# Altium footprint library PcbLib.PcbLib: 8 footprints
Each footprint in its own frame and in the unit in brackets; x right, y up, seen from the top. Pads: shape width x height; smd on the part's side, far side on the other; paste and mask are expansions set on the pad; w line width, h text height; cw(c..) or ccw(c..) is an arc to the next point about the centre after c.
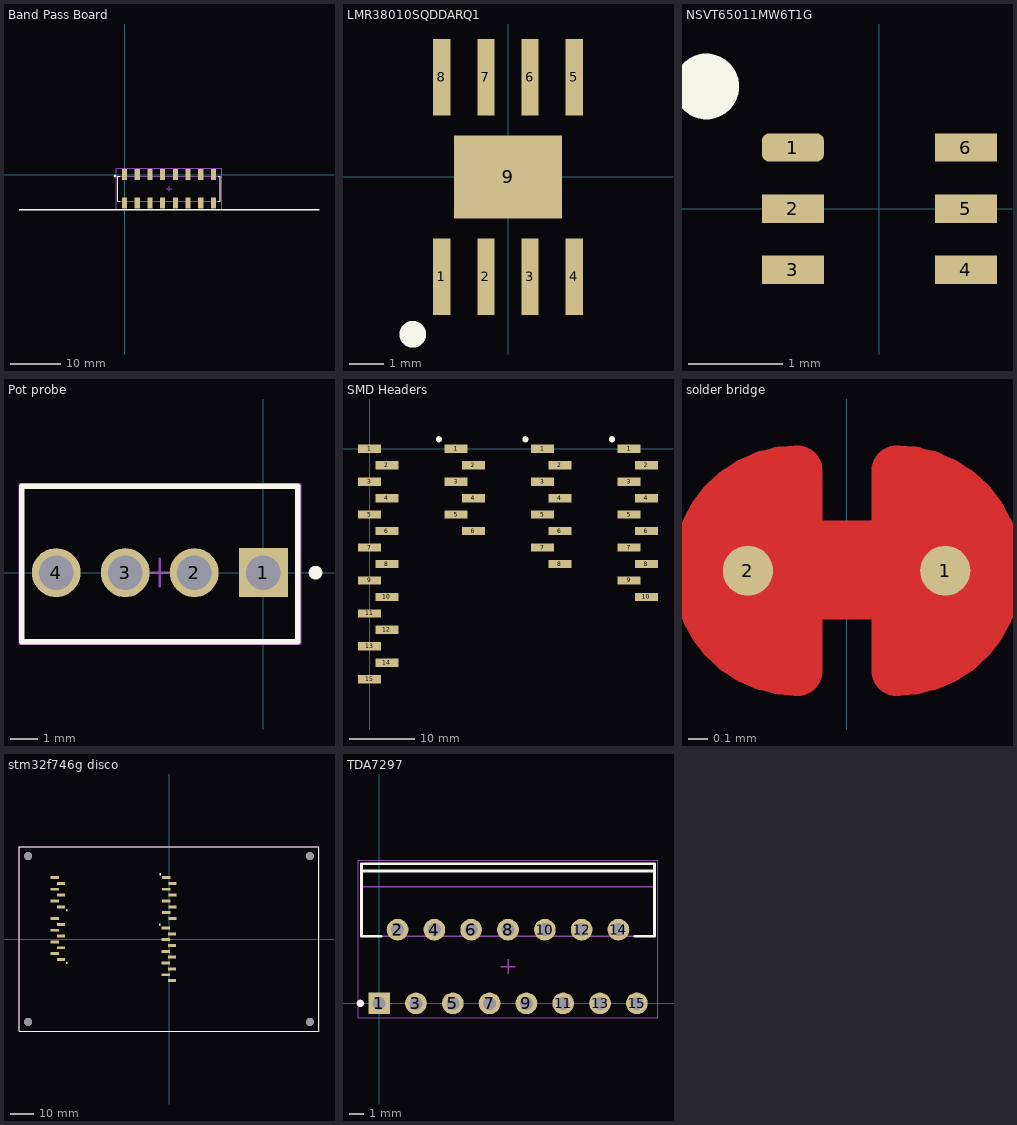
[diagram p0: the footprints below, top view; thin cyan lines are the x and y axes]

## Band Pass Board [mm]
pads (16):
  rect 1.02x2.22 smd: 1(0,0) 2(0,-5.65) 3(2.54,0) 4(2.54,-5.65) 5(5.08,0) 6(5.08,-5.65) 7(7.62,0) 8(7.62,-5.65) 9(10.16,0) 10(10.16,-5.65) 11(12.7,0) 12(12.7,-5.65) 13(15.24,0) 14(15.24,-5.65) 15(17.78,0) 16(17.78,-5.65)
Top Overlay:
  circle w0.25: c-1.905,-0.285 r0.125
  lines w0.2: -0.91,-5.365 -1.395,-5.365 -1.395,-0.285 -0.91,-0.285 ; 18.69,-5.365 19.175,-5.365 19.175,-0.285 18.69,-0.285
  lines w0.25: -21.082,-6.985 38.862,-6.985
Mechanical 13:
  lines w0.1: -1.395,-5.365 -1.395,-0.285 19.175,-0.285 19.175,-5.365 -1.395,-5.365
Mechanical 15:
  lines w0.05: -1.62,-6.885 19.4,-6.885 19.4,1.235 -1.62,1.235 -1.62,-6.885
  lines w0.1: 8.39,-2.825 9.39,-2.825 ; 8.89,-3.325 8.89,-2.325
3D body "SSM-108-X-DV.step": height 7.49, standoff 0, extent -1.27,-6.343 19.05,0.693
3D body "PCB Band Pass.step": height 47.5, standoff 1.5, extent -21.11,-6.858 38.89,-0.378

## LMR38010SQDDARQ1 [mm]
pads (9):
  rect 0.5x2.2 smd: 1(-1.905,-2.875) 2(-0.635,-2.875) 3(0.635,-2.875) 4(1.905,-2.875) 5(1.905,2.875) 6(0.635,2.875) 7(-0.635,2.875) 8(-1.905,2.875)
  rect 3.1x2.4 smd: 9(0,0)
Top Overlay:
  circle w0.5: c-2.744,-4.533 r0.135

## NSVT65011MW6T1G [mm]
pads (6):
  rrect50% 0.66x0.3 smd: 1(-0.92,0.65)
  rect 0.66x0.3 smd: 2(-0.92,0) 3(-0.92,-0.65) 4(0.92,-0.65) 5(0.92,0) 6(0.92,0.65)
Top Overlay:
  circle w0.5: c-1.84,1.3 r0.099
3D body "User Library-SW3dPS-SOT363.step": height 1, standoff 0.01, extent -1.05,-1 1.05,1

## Pot probe [mm]
pads (4):
  rect 1.8x1.8 hole 1.27 paste+0: 1(0,0)
  round 1.8 hole 1.27 paste+0: 2(-2.54,0) 3(-5.08,0) 4(-7.62,0)
Top Overlay:
  circle w0.25: c1.922,0 r0.127
  lines w0.2: -8.89,-2.54 1.27,-2.54 1.27,3.18 -8.89,3.18 -8.89,-2.54
Mechanical 13:
  lines w0.1: -8.89,-2.54 -8.89,3.18 1.27,3.18 1.27,-2.54 -8.89,-2.54
Mechanical 15:
  lines w0.05: -8.99,-2.64 1.37,-2.64 1.37,3.28 -8.99,3.28 -8.99,-2.64
  lines w0.1: -4.31,0 -3.31,0 ; -3.81,-0.5 -3.81,0.5
3D body: height 10.03, standoff -3.56, extent -5.4,-0.32 -4.76,0.32
3D body: height 10.03, standoff -3.56, extent -2.86,-0.32 -2.22,0.32
3D body: height 10.03, standoff -3.56, extent -0.32,-0.32 0.32,0.32
3D body: height 10.03, standoff -3.56, extent -7.94,-0.32 -7.3,0.32
3D body: height 2.54, standoff 0, extent -8.89,-2.54 1.27,3.175
3D body: height 7.87, standoff 2.54, extent -7.62,1.651 0,3.18

## SMD Headers [mm]
pads (39):
  rect 3.56x1.27 smd: 1(0,0) 1(13.35,0) 1(26.7,0) 1(40.05,0) 2(2.67,-2.54) 2(16.02,-2.54) 2(29.37,-2.54) 2(42.72,-2.54) 3(0,-5.08) 3(13.35,-5.08) 3(26.7,-5.08) 3(40.05,-5.08) 4(2.67,-7.62) 4(16.02,-7.62) 4(29.37,-7.62) 4(42.72,-7.62) 5(0,-10.16) 5(13.35,-10.16) 5(26.7,-10.16) 5(40.05,-10.16) 6(2.67,-12.7) 6(16.02,-12.7) 6(29.37,-12.7) 6(42.72,-12.7) 7(0,-15.24) 7(26.7,-15.24) 7(40.05,-15.24) 8(2.67,-17.78) 8(29.37,-17.78) 8(42.72,-17.78) 9(0,-20.32) 9(40.05,-20.32) 10(2.67,-22.86) 10(42.72,-22.86) 11(0,-25.4) 12(2.67,-27.94) 13(0,-30.48) 14(2.67,-33.02) 15(0,-35.56)
Top Overlay:
  circle w0.5: c37.404,1.457 r0.223
  circle w0.5: c24.054,1.457 r0.223
  circle w0.5: c10.704,1.457 r0.223
3D body "2460707.stp": height 10.04, standoff 0, extent -1.103,-36.627 3.773,1.067
3D body "6Pin.step": height 10.04, standoff 0, extent 12.247,-13.773 17.123,1.067
3D body "8Pin.step": height 10.04, standoff 0, extent 25.597,-18.853 30.473,1.067
3D body "10Pin.step": height 10.04, standoff 0, extent 38.947,-23.933 43.823,1.067

## solder bridge [mil]
pads (2):
  round 10 smd: 1(19.68,0) 2(-19.68,0)
Top Layer:
  region: -11.81,22.64 -11.81,-14.76 -21.65,-12.8 -27.56,-12.8 -27.56,16.73
  region: 11.97,19.68 15.91,15.75 27.72,15.75 27.72,-13.78 21.81,-19.68 10,-19.68
  lines w10: -9.84,-20 cw(c-9.84,0) -9.84,20 -9.84,-20 ; 10,-20 ccw(c10,0) 10,20 10,-20
  lines w19.68: -6.45,0.11 6.94,0.11
Top Solder:
  circle w25.59: c-9.84,0 r13.92
  circle w25.59: c10,0 r13.92
  lines w13.78: -9.84,-19.68 9.84,-19.68 ; -9.84,19.68 9.84,19.68

## stm32f746g disco [mm]
pads (36):
  rect 3.56x1.27 smd: 1(-46.925,-8.89) 2(-49.595,-6.35) 3(-46.925,-3.81) 4(-49.595,-1.27) 5(-46.925,1.27) 6(-49.595,3.81) 7(-46.925,6.35) 8(-49.595,8.89) 9(-46.925,13.97) 10(-49.595,16.51) 11(-46.925,19.05) 12(-49.595,21.59) 13(-46.925,24.13) 14(-49.595,26.67) 15(-1.157,26.664) 16(1.513,24.124) 17(-1.157,21.584) 18(1.513,19.044) 19(-1.157,16.504) 20(1.513,13.964) 21(-1.157,11.424) 22(1.513,8.884) 23(-1.371,4.798) 24(1.299,2.258) 25(-1.371,-0.282) 26(1.299,-2.822) 27(-1.371,-5.362) 28(1.299,-7.902) 29(-1.371,-10.442) 30(1.299,-12.982) 31(-1.371,-15.522) 32(1.299,-18.062)
  round 3.5 hole 3.5 unplated paste-1000 mask+0: ""(-61.1,-36) ""(-61.1,36) ""(61.1,-36) ""(61.1,36)
Top Overlay:
  circle w0.5: c-4.017,6.255 r0.223
  circle w0.5: c-44.279,-10.347 r0.223
  circle w0.5: c-44.279,12.513 r0.223
  circle w0.5: c-3.803,28.121 r0.223
  lines w0.2: -65,-40 -65,40 65,40 65,-40 -65,-40
Top 3D Body:
  lines w0.2: -65,-40 -65,40 65,40 65,-40 -65,-40
Top Courtyard:
  lines w0.2: -65.1,-40.1 -65.1,40.1 65.1,40.1 65.1,-40.1 -65.1,-40.1
Top Assembly:
  lines w0.2: -65.1,-40.1 -65.1,40.1 65.1,40.1 65.1,-40.1 -65.1,-40.1
Top Component Center:
  lines w0.1: -0.5,0 0.5,0 ; 0,-0.5 0,0.5
3D body "UNK_STMicroelectronics_STM32F746G-DISCO_eec.STEP": height 21.6, standoff -1.5, extent -65.164,-42.347 64.836,40.42
3D body "10Pin.step": height 10.04, standoff 0, extent -2.474,-19.135 2.403,5.865
3D body "8Pin.step": height 10.04, standoff 0, extent -50.698,-9.957 -45.822,9.963
3D body "6Pin.step": height 10.04, standoff 0, extent -50.698,12.903 -45.822,27.743
3D body "8Pin.step": height 10.04, standoff 0, extent -2.261,7.811 2.616,27.731

## TDA7297 [mm] "TDA7297"
pads (15):
  rect 1.5x1.5 hole 0.9: 1(0,0)
  round 1.5 hole 0.9: 2(1.27,5.08) 3(2.54,0) 4(3.81,5.08) 5(5.08,0) 6(6.35,5.08) 7(7.62,0) 8(8.89,5.08) 9(10.16,0) 10(11.43,5.08) 11(12.7,0) 12(13.97,5.08) 13(15.24,0) 14(16.51,5.08) 15(17.78,0)
Top Overlay:
  circle w0.25: c-1.3,0 r0.125
  lines w0.2: -1.21,9.13 18.99,9.13 ; 0.12,4.63 -1.21,4.63 -1.21,9.63 18.99,9.63 18.99,4.63 17.66,4.63
Mechanical 13:
  lines w0.1: -1.21,8.03 18.99,8.03 ; -1.21,4.63 -1.21,9.63 18.99,9.63 18.99,4.63 -1.21,4.63
Mechanical 15:
  lines w0.05: -1.46,-1 -1.46,9.88 19.24,9.88 19.24,-1 -1.46,-1
  lines w0.1: 8.39,2.54 9.39,2.54 ; 8.89,2.04 8.89,3.04
3D body: height 21, standoff 20.08, extent -0.91,8.03 18.69,9.63
3D body: height 18.57, standoff 18.2, extent 10.765,8.03 18.69,9.63
3D body: height 18.57, standoff 18.2, extent -0.91,8.03 7.015,9.63
3D body: height 18.2, standoff 17.83, extent 10.765,8.03 18.69,9.63
3D body: height 18.2, standoff 17.83, extent -0.91,8.03 7.015,9.63
3D body: height 18.92, standoff 18.57, extent 10.729,8.03 18.69,9.63
3D body: height 18.92, standoff 18.57, extent -0.91,8.03 7.051,9.63
3D body: height 17.84, standoff 17.48, extent 10.729,8.03 18.69,9.63
3D body: height 17.84, standoff 17.48, extent -0.91,8.03 7.051,9.63
3D body: height 19.25, standoff 18.92, extent 10.622,8.03 18.69,9.63
3D body: height 19.25, standoff 18.92, extent -0.91,8.03 7.158,9.63
3D body: height 17.49, standoff 17.16, extent 10.622,8.03 18.69,9.63
3D body: height 17.49, standoff 17.16, extent -0.91,8.03 7.158,9.63
3D body: height 19.53, standoff 19.24, extent 10.449,8.03 18.69,9.63
3D body: height 19.53, standoff 19.24, extent -0.91,8.03 7.331,9.63
3D body: height 17.16, standoff 16.87, extent 10.449,8.03 18.69,9.63
3D body: height 17.16, standoff 16.87, extent -0.91,8.03 7.331,9.63
3D body: height 19.76, standoff 19.53, extent 10.216,8.03 18.69,9.63
3D body: height 19.76, standoff 19.53, extent -0.91,8.03 7.564,9.63
3D body: height 16.88, standoff 16.64, extent 10.216,8.03 18.69,9.63
3D body: height 16.88, standoff 16.64, extent -0.91,8.03 7.564,9.63
3D body: height 19.94, standoff 19.76, extent 9.932,8.03 18.69,9.63
3D body: height 19.94, standoff 19.76, extent -0.91,8.03 7.848,9.63
3D body: height 16.65, standoff 16.47, extent 9.932,8.03 18.69,9.63
3D body: height 16.65, standoff 16.47, extent -0.91,8.03 7.848,9.63
3D body: height 20.04, standoff 19.93, extent 9.608,8.03 18.69,9.63
3D body: height 20.04, standoff 19.93, extent -0.91,8.03 8.172,9.63
3D body: height 16.47, standoff 16.36, extent 9.608,8.03 18.69,9.63
3D body: height 16.47, standoff 16.36, extent -0.91,8.03 8.172,9.63
3D body: height 20.08, standoff 20.04, extent 9.256,8.03 18.69,9.63
3D body: height 20.08, standoff 20.04, extent -0.91,8.03 8.524,9.63
3D body: height 16.37, standoff 16.33, extent 9.256,8.03 18.69,9.63
3D body: height 16.37, standoff 16.33, extent -0.91,8.03 8.524,9.63
3D body: height 16.33, standoff 14.1, extent -0.91,8.03 18.69,9.63
3D body: height 14.1, standoff 2.54, extent -1.21,4.63 18.99,9.63
3D body: height 0, standoff -1.6, extent 17.425,-0.26 18.135,0.26
3D body: height 2.54, standoff 1.53, extent 17.425,6.87 18.135,7.39
3D body: height 1.53, standoff 1.01, extent 17.425,-0.26 18.135,7.39
3D body: height 1.01, standoff 0, extent 17.425,-0.26 18.135,0.26
3D body: height 0, standoff -1.6, extent 16.155,4.82 16.865,5.34
3D body: height 2.54, standoff 1.53, extent 16.155,6.87 16.865,7.39
3D body: height 1.53, standoff 1.01, extent 16.155,4.82 16.865,7.39
3D body: height 1.01, standoff 0, extent 16.155,4.82 16.865,5.34
3D body: height 0, standoff -1.6, extent 14.885,-0.26 15.595,0.26
3D body: height 2.54, standoff 1.53, extent 14.885,6.87 15.595,7.39
3D body: height 1.53, standoff 1.01, extent 14.885,-0.26 15.595,7.39
3D body: height 1.01, standoff 0, extent 14.885,-0.26 15.595,0.26
3D body: height 0, standoff -1.6, extent 13.615,4.82 14.325,5.34
3D body: height 2.54, standoff 1.53, extent 13.615,6.87 14.325,7.39
3D body: height 1.53, standoff 1.01, extent 13.615,4.82 14.325,7.39
3D body: height 1.01, standoff 0, extent 13.615,4.82 14.325,5.34
3D body: height 0, standoff -1.6, extent 12.345,-0.26 13.055,0.26
3D body: height 2.54, standoff 1.53, extent 12.345,6.87 13.055,7.39
3D body: height 1.53, standoff 1.01, extent 12.345,-0.26 13.055,7.39
3D body: height 1.01, standoff 0, extent 12.345,-0.26 13.055,0.26
3D body: height 0, standoff -1.6, extent 11.075,4.82 11.785,5.34
3D body: height 2.54, standoff 1.53, extent 11.075,6.87 11.785,7.39
3D body: height 1.53, standoff 1.01, extent 11.075,4.82 11.785,7.39
3D body: height 1.01, standoff 0, extent 11.075,4.82 11.785,5.34
3D body: height 0, standoff -1.6, extent 9.805,-0.26 10.515,0.26
3D body: height 2.54, standoff 1.53, extent 9.805,6.87 10.515,7.39
3D body: height 1.53, standoff 1.01, extent 9.805,-0.26 10.515,7.39
3D body: height 1.01, standoff 0, extent 9.805,-0.26 10.515,0.26
3D body: height 0, standoff -1.6, extent 8.535,4.82 9.245,5.34
3D body: height 2.54, standoff 1.53, extent 8.535,6.87 9.245,7.39
3D body: height 1.53, standoff 1.01, extent 8.535,4.82 9.245,7.39
3D body: height 1.01, standoff 0, extent 8.535,4.82 9.245,5.34
3D body: height 0, standoff -1.6, extent 7.265,-0.26 7.975,0.26
3D body: height 2.54, standoff 1.53, extent 7.265,6.87 7.975,7.39
3D body: height 1.53, standoff 1.01, extent 7.265,-0.26 7.975,7.39
3D body: height 1.01, standoff 0, extent 7.265,-0.26 7.975,0.26
3D body: height 0, standoff -1.6, extent 5.995,4.82 6.705,5.34
3D body: height 2.54, standoff 1.53, extent 5.995,6.87 6.705,7.39
3D body: height 1.53, standoff 1.01, extent 5.995,4.82 6.705,7.39
3D body: height 1.01, standoff 0, extent 5.995,4.82 6.705,5.34
3D body: height 0, standoff -1.6, extent 4.725,-0.26 5.435,0.26
3D body: height 2.54, standoff 1.53, extent 4.725,6.87 5.435,7.39
3D body: height 1.53, standoff 1.01, extent 4.725,-0.26 5.435,7.39
3D body: height 1.01, standoff 0, extent 4.725,-0.26 5.435,0.26
3D body: height 0, standoff -1.6, extent 3.455,4.82 4.165,5.34
3D body: height 2.54, standoff 1.53, extent 3.455,6.87 4.165,7.39
3D body: height 1.53, standoff 1.01, extent 3.455,4.82 4.165,7.39
3D body: height 1.01, standoff 0, extent 3.455,4.82 4.165,5.34
3D body: height 0, standoff -1.6, extent 2.185,-0.26 2.895,0.26
3D body: height 2.54, standoff 1.53, extent 2.185,6.87 2.895,7.39
3D body: height 1.53, standoff 1.01, extent 2.185,-0.26 2.895,7.39
3D body: height 1.01, standoff 0, extent 2.185,-0.26 2.895,0.26
3D body: height 0, standoff -1.6, extent 0.915,4.82 1.625,5.34
3D body: height 2.54, standoff 1.53, extent 0.915,6.87 1.625,7.39
3D body: height 1.53, standoff 1.01, extent 0.915,4.82 1.625,7.39
3D body: height 1.01, standoff 0, extent 0.915,4.82 1.625,5.34
3D body: height 0, standoff -1.6, extent -0.355,-0.26 0.355,0.26
3D body: height 2.54, standoff 1.53, extent -0.355,6.87 0.355,7.39
3D body: height 1.53, standoff 1.01, extent -0.355,-0.26 0.355,7.39
3D body: height 1.01, standoff 0, extent -0.355,-0.26 0.355,0.26